# Altium schematic symbol library MCU_Microchip_PIC10.SchLib: 24 symbols
Pins are listed as number, name and electrical type; pins without a type are passive.

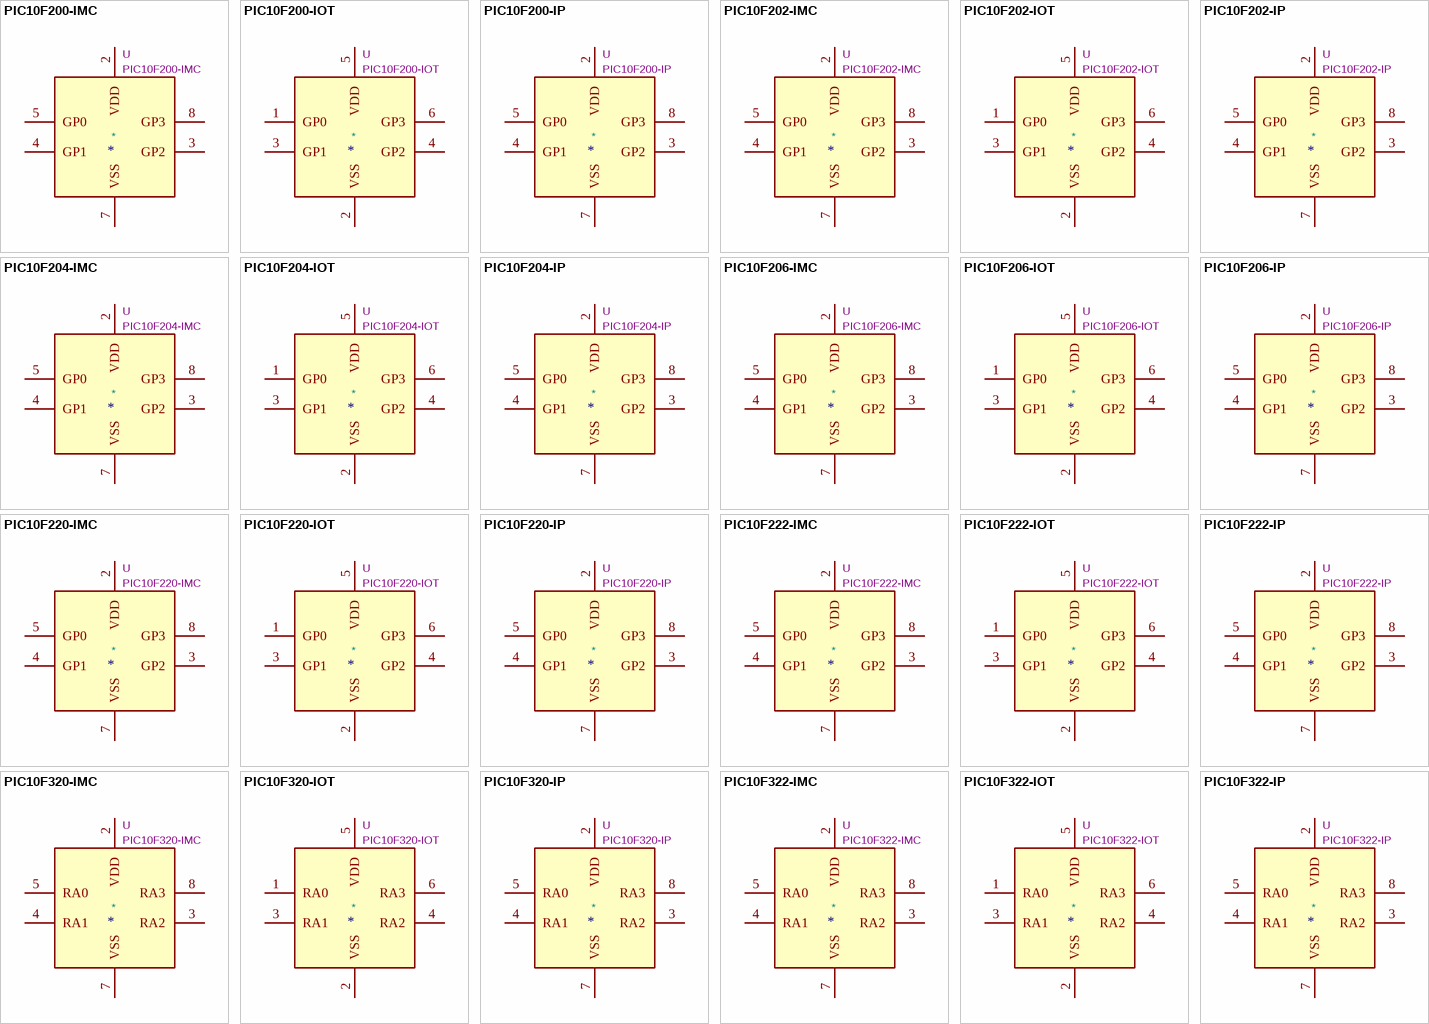
[diagram p0: symbols PIC10F200-IMC to PIC10F322-IP]

## PIC10F200-IMC
designator *  value PIC10F200-IMC  Reference: U
256W Flash, 16B SRAM, DFN8; ki_keywords: FLASH 8-Bit CMOS Microcontroller; ki_fp_filters: DFN*8*1EP*3x2mm*P0.5mm*; Footprint: Package_DFN_QFN:DFN-8-1EP_3x2mm_P0.5mm_EP1.7x1.4mm; Datasheet: http://ww1.microchip.com/downloads/en/DeviceDoc/41239D.pdf; Description_: 256W Flash, 16B SRAM, DFN8
pins: 2 VDD, 3 GP2, 4 GP1, 5 GP0, 7 VSS, 8 GP3

## PIC10F200-IOT
designator *  value PIC10F200-IOT  Reference: U
256W Flash, 16B SRAM, SOT-23-6; ki_keywords: FLASH 8-Bit CMOS Microcontroller; ki_fp_filters: SOT*23*6*; Footprint: Package_TO_SOT_SMD:SOT-23-6; Datasheet: http://ww1.microchip.com/downloads/en/DeviceDoc/41239D.pdf; Description_: 256W Flash, 16B SRAM, SOT-23-6
pins: 1 GP0, 2 VSS, 3 GP1, 4 GP2, 5 VDD, 6 GP3

## PIC10F200-IP
designator *  value PIC10F200-IP  Reference: U
256W Flash, 16B SRAM, PDIP8; ki_keywords: FLASH 8-Bit CMOS Microcontroller; ki_fp_filters: DIP*8*W7.62mm*; Footprint: Package_DIP:DIP-8_W7.62mm; Datasheet: http://ww1.microchip.com/downloads/en/DeviceDoc/41239D.pdf; Description_: 256W Flash, 16B SRAM, PDIP8
pins: 2 VDD, 3 GP2, 4 GP1, 5 GP0, 7 VSS, 8 GP3

## PIC10F202-IMC
designator *  value PIC10F202-IMC  Reference: U
512W Flash, 24B SRAM, DFN8; ki_keywords: FLASH 8-Bit CMOS Microcontroller; ki_fp_filters: DFN*8*1EP*3x2mm*P0.5mm*; Footprint: Package_DFN_QFN:DFN-8-1EP_3x2mm_P0.5mm_EP1.7x1.4mm; Datasheet: http://ww1.microchip.com/downloads/en/DeviceDoc/41239D.pdf; Description_: 512W Flash, 24B SRAM, DFN8
pins: 2 VDD, 3 GP2, 4 GP1, 5 GP0, 7 VSS, 8 GP3

## PIC10F202-IOT
designator *  value PIC10F202-IOT  Reference: U
512W Flash, 24B SRAM, SOT-23-6; ki_keywords: FLASH 8-Bit CMOS Microcontroller; ki_fp_filters: SOT*23*6*; Footprint: Package_TO_SOT_SMD:SOT-23-6; Datasheet: http://ww1.microchip.com/downloads/en/DeviceDoc/41239D.pdf; Description_: 512W Flash, 24B SRAM, SOT-23-6
pins: 1 GP0, 2 VSS, 3 GP1, 4 GP2, 5 VDD, 6 GP3

## PIC10F202-IP
designator *  value PIC10F202-IP  Reference: U
512W Flash, 24B SRAM, PDIP8; ki_keywords: FLASH 8-Bit CMOS Microcontroller; ki_fp_filters: DIP*8*W7.62mm*; Footprint: Package_DIP:DIP-8_W7.62mm; Datasheet: http://ww1.microchip.com/downloads/en/DeviceDoc/41239D.pdf; Description_: 512W Flash, 24B SRAM, PDIP8
pins: 2 VDD, 3 GP2, 4 GP1, 5 GP0, 7 VSS, 8 GP3

## PIC10F204-IMC
designator *  value PIC10F204-IMC  Reference: U
256W Flash, 16B SRAM, DFN8; ki_keywords: FLASH 8-Bit CMOS Microcontroller; ki_fp_filters: DFN*8*1EP*3x2mm*P0.5mm*; Footprint: Package_DFN_QFN:DFN-8-1EP_3x2mm_P0.5mm_EP1.7x1.4mm; Datasheet: http://ww1.microchip.com/downloads/en/DeviceDoc/41239D.pdf; Description_: 256W Flash, 16B SRAM, DFN8
pins: 2 VDD, 3 GP2, 4 GP1, 5 GP0, 7 VSS, 8 GP3

## PIC10F204-IOT
designator *  value PIC10F204-IOT  Reference: U
256W Flash, 16B SRAM, SOT-23-6; ki_keywords: FLASH 8-Bit CMOS Microcontroller; ki_fp_filters: SOT*23*6*; Footprint: Package_TO_SOT_SMD:SOT-23-6; Datasheet: http://ww1.microchip.com/downloads/en/DeviceDoc/41239D.pdf; Description_: 256W Flash, 16B SRAM, SOT-23-6
pins: 1 GP0, 2 VSS, 3 GP1, 4 GP2, 5 VDD, 6 GP3

## PIC10F204-IP
designator *  value PIC10F204-IP  Reference: U
256W Flash, 16B SRAM, PDIP8; ki_keywords: FLASH 8-Bit CMOS Microcontroller; ki_fp_filters: DIP*8*W7.62mm*; Footprint: Package_DIP:DIP-8_W7.62mm; Datasheet: http://ww1.microchip.com/downloads/en/DeviceDoc/41239D.pdf; Description_: 256W Flash, 16B SRAM, PDIP8
pins: 2 VDD, 3 GP2, 4 GP1, 5 GP0, 7 VSS, 8 GP3

## PIC10F206-IMC
designator *  value PIC10F206-IMC  Reference: U
512W Flash, 24B SRAM, DFN8; ki_keywords: FLASH 8-Bit CMOS Microcontroller; ki_fp_filters: DFN*8*1EP*3x2mm*P0.5mm*; Footprint: Package_DFN_QFN:DFN-8-1EP_3x2mm_P0.5mm_EP1.7x1.4mm; Datasheet: http://ww1.microchip.com/downloads/en/DeviceDoc/41239D.pdf; Description_: 512W Flash, 24B SRAM, DFN8
pins: 2 VDD, 3 GP2, 4 GP1, 5 GP0, 7 VSS, 8 GP3

## PIC10F206-IOT
designator *  value PIC10F206-IOT  Reference: U
512W Flash, 24B SRAM, SOT-23-6; ki_keywords: FLASH 8-Bit CMOS Microcontroller; ki_fp_filters: SOT*23*6*; Footprint: Package_TO_SOT_SMD:SOT-23-6; Datasheet: http://ww1.microchip.com/downloads/en/DeviceDoc/41239D.pdf; Description_: 512W Flash, 24B SRAM, SOT-23-6
pins: 1 GP0, 2 VSS, 3 GP1, 4 GP2, 5 VDD, 6 GP3

## PIC10F206-IP
designator *  value PIC10F206-IP  Reference: U
512W Flash, 24B SRAM, PDIP8; ki_keywords: FLASH 8-Bit CMOS Microcontroller; ki_fp_filters: DIP*8*W7.62mm*; Footprint: Package_DIP:DIP-8_W7.62mm; Datasheet: http://ww1.microchip.com/downloads/en/DeviceDoc/41239D.pdf; Description_: 512W Flash, 24B SRAM, PDIP8
pins: 2 VDD, 3 GP2, 4 GP1, 5 GP0, 7 VSS, 8 GP3

## PIC10F220-IMC
designator *  value PIC10F220-IMC  Reference: U
256W Flash, 16B SRAM, DFN8; ki_keywords: FLASH 8-Bit CMOS Microcontroller; ki_fp_filters: DFN*8*1EP*3x2mm*P0.5mm*; Footprint: Package_DFN_QFN:DFN-8-1EP_3x2mm_P0.5mm_EP1.7x1.4mm; Datasheet: http://ww1.microchip.com/downloads/en/DeviceDoc/41270E.pdf; Description_: 256W Flash, 16B SRAM, DFN8
pins: 2 VDD, 3 GP2, 4 GP1, 5 GP0, 7 VSS, 8 GP3

## PIC10F220-IOT
designator *  value PIC10F220-IOT  Reference: U
256W Flash, 16B SRAM, SOT-23-6; ki_keywords: FLASH 8-Bit CMOS Microcontroller; ki_fp_filters: SOT*23*6*; Footprint: Package_TO_SOT_SMD:SOT-23-6; Datasheet: http://ww1.microchip.com/downloads/en/DeviceDoc/41270E.pdf; Description_: 256W Flash, 16B SRAM, SOT-23-6
pins: 1 GP0, 2 VSS, 3 GP1, 4 GP2, 5 VDD, 6 GP3

## PIC10F220-IP
designator *  value PIC10F220-IP  Reference: U
256W Flash, 16B SRAM, PDIP8; ki_keywords: FLASH 8-Bit CMOS Microcontroller; ki_fp_filters: DIP*8*W7.62mm*; Footprint: Package_DIP:DIP-8_W7.62mm; Datasheet: http://ww1.microchip.com/downloads/en/DeviceDoc/41270E.pdf; Description_: 256W Flash, 16B SRAM, PDIP8
pins: 2 VDD, 3 GP2, 4 GP1, 5 GP0, 7 VSS, 8 GP3

## PIC10F222-IMC
designator *  value PIC10F222-IMC  Reference: U
512W Flash, 24B SRAM, DFN8; ki_keywords: FLASH 8-Bit CMOS Microcontroller; ki_fp_filters: DFN*8*1EP*3x2mm*P0.5mm*; Footprint: Package_DFN_QFN:DFN-8-1EP_3x2mm_P0.5mm_EP1.7x1.4mm; Datasheet: http://ww1.microchip.com/downloads/en/DeviceDoc/41270E.pdf; Description_: 512W Flash, 24B SRAM, DFN8
pins: 2 VDD, 3 GP2, 4 GP1, 5 GP0, 7 VSS, 8 GP3

## PIC10F222-IOT
designator *  value PIC10F222-IOT  Reference: U
512W Flash, 24B SRAM, SOT-23-6; ki_keywords: FLASH 8-Bit CMOS Microcontroller; ki_fp_filters: SOT*23*6*; Footprint: Package_TO_SOT_SMD:SOT-23-6; Datasheet: http://ww1.microchip.com/downloads/en/DeviceDoc/41270E.pdf; Description_: 512W Flash, 24B SRAM, SOT-23-6
pins: 1 GP0, 2 VSS, 3 GP1, 4 GP2, 5 VDD, 6 GP3

## PIC10F222-IP
designator *  value PIC10F222-IP  Reference: U
512W Flash, 24B SRAM, PDIP8; ki_keywords: FLASH 8-Bit CMOS Microcontroller; ki_fp_filters: DIP*8*W7.62mm*; Footprint: Package_DIP:DIP-8_W7.62mm; Datasheet: http://ww1.microchip.com/downloads/en/DeviceDoc/41270E.pdf; Description_: 512W Flash, 24B SRAM, PDIP8
pins: 2 VDD, 3 GP2, 4 GP1, 5 GP0, 7 VSS, 8 GP3

## PIC10F320-IMC
designator *  value PIC10F320-IMC  Reference: U
256W Flash, 64B SRAM, DFN8; ki_keywords: FLASH 8-Bit CMOS Microcontroller; ki_fp_filters: DFN*8*1EP*3x2mm*P0.5mm*; Footprint: Package_DFN_QFN:DFN-8-1EP_3x2mm_P0.5mm_EP1.7x1.4mm; Datasheet: http://ww1.microchip.com/downloads/en/DeviceDoc/41585A.pdf; Description_: 256W Flash, 64B SRAM, DFN8
pins: 2 VDD, 3 RA2, 4 RA1, 5 RA0, 7 VSS, 8 RA3

## PIC10F320-IOT
designator *  value PIC10F320-IOT  Reference: U
256W Flash, 64B SRAM, SOT-23-6; ki_keywords: FLASH 8-Bit CMOS Microcontroller; ki_fp_filters: SOT*23*6*; Footprint: Package_TO_SOT_SMD:SOT-23-6; Datasheet: http://ww1.microchip.com/downloads/en/DeviceDoc/41585A.pdf; Description_: 256W Flash, 64B SRAM, SOT-23-6
pins: 1 RA0, 2 VSS, 3 RA1, 4 RA2, 5 VDD, 6 RA3

## PIC10F320-IP
designator *  value PIC10F320-IP  Reference: U
256W Flash, 64B SRAM, PDIP8; ki_keywords: FLASH 8-Bit CMOS Microcontroller; ki_fp_filters: DIP*8*W7.62mm*; Footprint: Package_DIP:DIP-8_W7.62mm; Datasheet: http://ww1.microchip.com/downloads/en/DeviceDoc/41585A.pdf; Description_: 256W Flash, 64B SRAM, PDIP8
pins: 2 VDD, 3 RA2, 4 RA1, 5 RA0, 7 VSS, 8 RA3

## PIC10F322-IMC
designator *  value PIC10F322-IMC  Reference: U
512W Flash, 64B SRAM, DFN8; ki_keywords: FLASH 8-Bit CMOS Microcontroller; ki_fp_filters: DFN*8*1EP*3x2mm*P0.5mm*; Footprint: Package_DFN_QFN:DFN-8-1EP_3x2mm_P0.5mm_EP1.7x1.4mm; Datasheet: http://ww1.microchip.com/downloads/en/DeviceDoc/41585A.pdf; Description_: 512W Flash, 64B SRAM, DFN8
pins: 2 VDD, 3 RA2, 4 RA1, 5 RA0, 7 VSS, 8 RA3

## PIC10F322-IOT
designator *  value PIC10F322-IOT  Reference: U
512W Flash, 64B SRAM, SOT-23-6; ki_keywords: FLASH 8-Bit CMOS Microcontroller; ki_fp_filters: SOT*23*6*; Footprint: Package_TO_SOT_SMD:SOT-23-6; Datasheet: http://ww1.microchip.com/downloads/en/DeviceDoc/41585A.pdf; Description_: 512W Flash, 64B SRAM, SOT-23-6
pins: 1 RA0, 2 VSS, 3 RA1, 4 RA2, 5 VDD, 6 RA3

## PIC10F322-IP
designator *  value PIC10F322-IP  Reference: U
512W Flash, 64B SRAM, PDIP8; ki_keywords: FLASH 8-Bit CMOS Microcontroller; ki_fp_filters: DIP*8*W7.62mm*; Footprint: Package_DIP:DIP-8_W7.62mm; Datasheet: http://ww1.microchip.com/downloads/en/DeviceDoc/41585A.pdf; Description_: 512W Flash, 64B SRAM, PDIP8
pins: 2 VDD, 3 RA2, 4 RA1, 5 RA0, 7 VSS, 8 RA3